# Altium schematic symbol library Cubesat_lib.SchLib: 117 symbols (part 2 of 2)
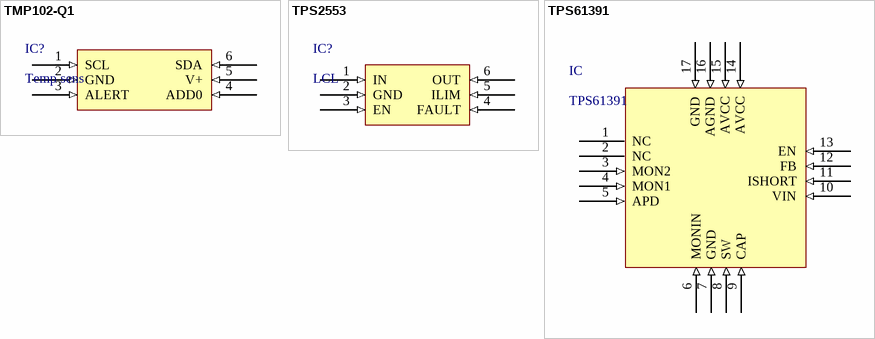
[diagram p4: symbols TMP102-Q1 to TPS61391]

## TPS2553
designator IC?, comment LCL
Latch-off Current Limiter; ComponentLink1Description: New link; ComponentLink1URL: https://www.ti.com/lit/ds/symlink/tps2553.pdf?ts=1603819295065&ref_url=https%253A%252F%252Fwww.google.com%252F
footprint SOT-23-6
pins: 1 IN (in), 2 GND (in), 3 EN (in), 4 FAULT (in), 5 ILIM (in), 6 OUT (in)

## TPS61391
designator IC
TPS61391 85-VOUT Boost Converter with Current Mirror Integrated; ComponentLink1Description: New link; ComponentLink1URL: https://www.ti.com/lit/ds/symlink/tps61391.pdf
footprint WQFN16 (QFN, 16-Leads, Body 3.15x3.15mm, Pitch 0.50mm, Thermal Pad 1.66x1.50mm, IPC Medium Density)
pins: 1 NC, 2 NC, 3 MON2 (in), 4 MON1 (in), 5 APD (in), 6 MONIN (in), 7 GND (in), 8 SW (in), 9 CAP (in), 10 VIN (in), 11 ISHORT (in), 12 FB (in), 13 EN (in), 14 AVCC (in), 15 AVCC (in), 16 AGND (in), 17 GND (in)